# Altium footprint library MMF50SFRF10K.PcbLib: 3 footprints
Each footprint in its own frame and in the unit in brackets; x right, y up, seen from the top. Pads: shape width x height; smd on the part's side, far side on the other; paste and mask are expansions set on the pad; w line width, h text height; cw(c..) or ccw(c..) is an arc to the next point about the centre after c.
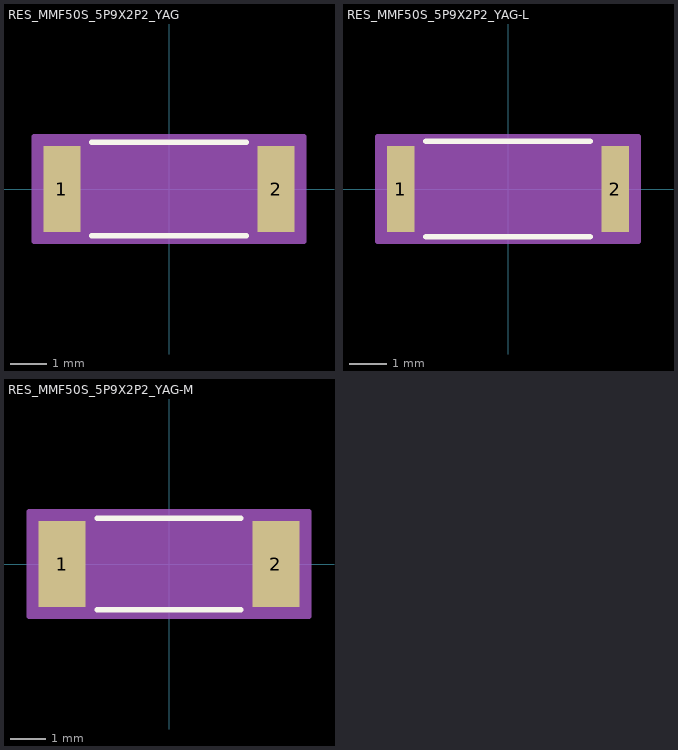
[diagram p0: the footprints below, top view; thin cyan lines are the x and y axes]

## RES_MMF50S_5P9X2P2_YAG [mil]
pads (2):
  rect 40x93 smd paste+0 mask+0: 1(-116,0) 2(116,0)
Top Overlay:
  lines w6: -83.53,-50.5 83.53,-50.5 ; -83.53,50.5 83.53,50.5
Mechanical 5:
  region: 143.5,-54 -143.5,-54 -143.5,54 143.5,54
Mechanical 13:
  lines w1: -120,-22.75 -97.25,-45.5 ; -120,22.75 -97.25,45.5 ; -120,-45.5 120,-45.5 120,45.5 -120,45.5 -120,-45.5
Mechanical 15:
  region: 146,-56.5 -146,-56.5 -146,56.5 146,56.5
  lines w6: -146,-56.5 -146,56.5 146,56.5 146,-56.5 -146,-56.5
3D body "RES_MMF50S_5P9X2P2_YAG.step": height 90.65, standoff 0, extent -120,-45.41 120,45.41

## RES_MMF50S_5P9X2P2_YAG-L [mil]
pads (2):
  rect 29x91 smd paste+0 mask+0: 1(-113.5,0) 2(113.5,0)
Top Overlay:
  lines w6: -86.89,-50.5 86.89,-50.5 ; -86.89,50.5 86.89,50.5
Mechanical 5:
  region: 135.5,-53 -135.5,-53 -135.5,53 135.5,53
Mechanical 13:
  lines w1: -120,-22.75 -97.25,-45.5 ; -120,22.75 -97.25,45.5 ; -120,-45.5 120,-45.5 120,45.5 -120,45.5 -120,-45.5
Mechanical 15:
  region: 138,-55.5 -138,-55.5 -138,55.5 138,55.5
  lines w6: -138,-55.5 -138,55.5 138,55.5 138,-55.5 -138,-55.5
3D body "RES_MMF50S_5P9X2P2_YAG.step": height 90.65, standoff 0, extent -120,-45.41 120,45.41

## RES_MMF50S_5P9X2P2_YAG-M [mil]
pads (2):
  rect 52x95 smd paste+0 mask+0: 1(-118,0) 2(118,0)
Top Overlay:
  lines w6: -79.25,-50.5 79.25,-50.5 ; -79.25,50.5 79.25,50.5
Mechanical 5:
  region: 151.5,-55 -151.5,-55 -151.5,55 151.5,55
Mechanical 13:
  lines w1: -120,-22.75 -97.25,-45.5 ; -120,22.75 -97.25,45.5 ; -120,-45.5 120,-45.5 120,45.5 -120,45.5 -120,-45.5
Mechanical 15:
  region: 154,-57.5 -154,-57.5 -154,57.5 154,57.5
  lines w6: -154,-57.5 -154,57.5 154,57.5 154,-57.5 -154,-57.5
3D body "RES_MMF50S_5P9X2P2_YAG.step": height 90.65, standoff 0, extent -120,-45.41 120,45.41